# Altium schematic symbol library RCS12064R99FKEA.SchLib: 1 symbol
Pins are listed as number, name and electrical type; pins without a type are passive.

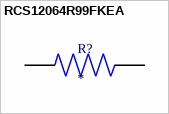
[diagram p0: symbol RCS12064R99FKEA]

## RCS12064R99FKEA
designator R?
MF: {'manufacturer': u'Vishay'}; MP: RCS12064R99FKEA; Price: None; Availability: Unavailable; Value: *; Package: None
footprint RESC3116X65N
pins: 1, 2